# EAGLE library part TPS63000IDRCRQ1 (library TPS63000IDRCRQ1)
Switching Voltage Regulators Auto Cat 96% Buck- Boost Converter Source: Datasheet <https://www.ti.com/lit/gpn/tps63000-q1?HQS=ti-null-null-sf-df-pf-sep-wwe&DCM=yes>
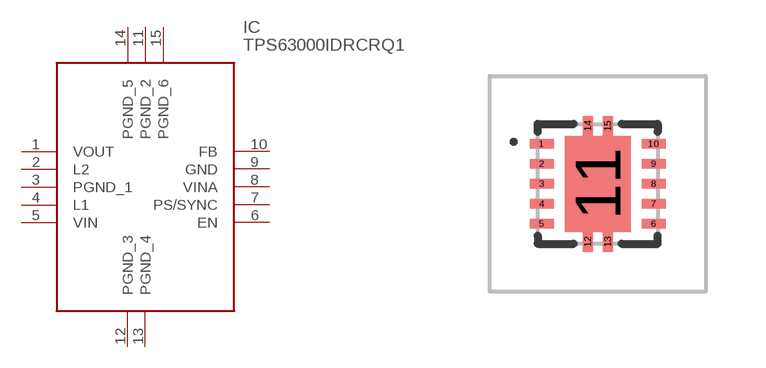
[diagram p0: symbol with the pads of TPS63000IDRCRQ1; footprint TPS63000IDRCRQ1]

Designator prefix IC

## TPS63000IDRCRQ1 (Description: Switching Voltage Regulators Auto Cat 96% Buck- Boost Converter; Height: 1mm; Manufacturer_Name: Texas Instruments; Manufacturer_Part_Number: TPS63000IDRCRQ1; Mouser_Part_Number: 595-TPS63000IDRCRQ1; Mouser_Price-Stock: https://www.mouser.co.uk/ProductDetail/Texas-Instruments/TPS63000IDRCRQ1?qs=i6VRxKQL%2FYw6zzUuY%2FiBvw%3D%3D)  [TPS63000IDRCRQ1]
1  VOUT
2  L2
3  PGND_1
4  L1
5  VIN
6  EN
7  PS/SYNC
8  VINA
9  GND
10  FB
11  PGND_2
12  PGND_3
13  PGND_4
14  PGND_5
15  PGND_6

## Footprint TPS63000IDRCRQ1 (pad centres in mm)
DRC0010J_6
smd 0.6 x 0.24: 1 -1.4,1; 2 -1.4,0.5; 3 -1.4,0; 4 -1.4,-0.5; 5 -1.4,-1; 6 1.4,-1; 7 1.4,-0.5; 8 1.4,0; 9 1.4,0.5; 10 1.4,1
smd 1.65 x 2.4: 11 0,0
smd 0.25 x 0.5: 12 -0.25,-1.45; 13 0.25,-1.45; 14 -0.25,1.45; 15 0.25,1.45